# EAGLE library part SENSOR_CON_4PIN (library pie)
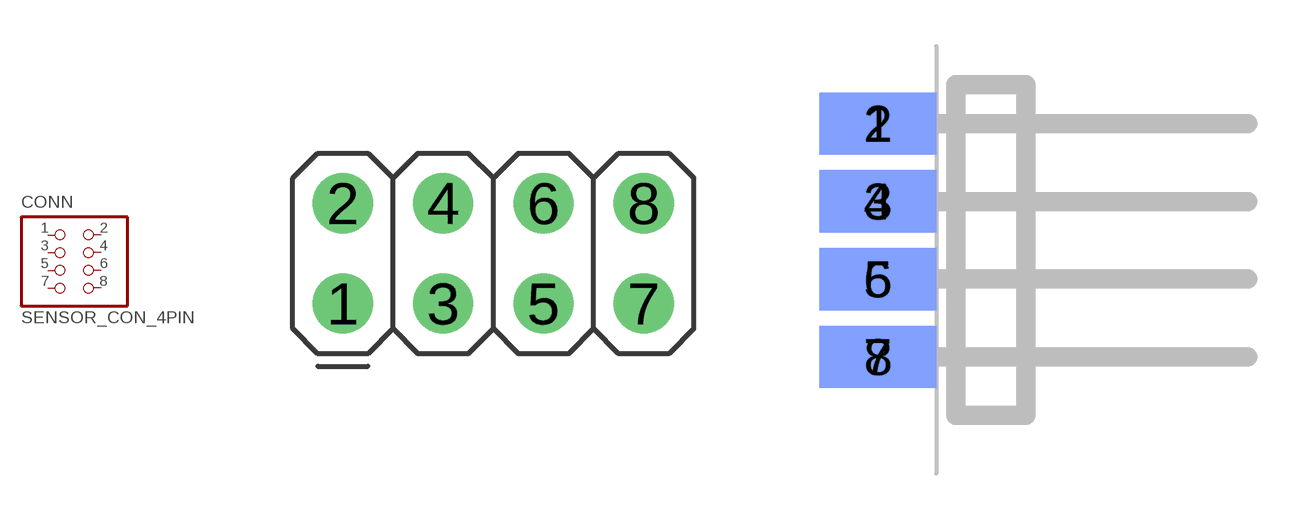
[diagram p18: symbol with the pads of 2X4; footprints 2X4, 2X4-EDGE]

Designator prefix CONN

## SENSOR_CON_4PINPTH (PIE-INT-REF-NUM: BULK-STOCK)  [2X4]
1  1  pas
2  2  pas
3  3  pas
4  4  pas
5  5  pas
6  6  pas
7  7  pas
8  8  pas

## SENSOR_CON_4PINSMD-EDGE (PIE-INT-REF-NUM: BULK-STOCK)  [2X4-EDGE]
Pads as for 2X4

## Footprint 2X4 (pad centres in mm)
2x4-pin 0.1-inch header Pololu page <https://www.pololu.com/product/966> Drawings <http://multimedia.3m.com/mws/media/548112O/3mtm-pin-strip-header-ts2181.pdf>
drill 1.016 pad 1.524: 1 -3.81,-1.27; 2 -3.81,1.27; 3 -1.27,-1.27; 4 -1.27,1.27; 5 1.27,-1.27; 6 1.27,1.27; 7 3.81,-1.27; 8 3.81,1.27

## Footprint 2X4-EDGE (pad centres in mm)
2x4-pin 0.1-inch header Pololu page <https://www.pololu.com/product/966> Drawings <http://multimedia.3m.com/mws/media/548112O/3mtm-pin-strip-header-ts2181.pdf>
smd 3.81 x 2.032: 1 -2.54,3.81; 3 -2.54,1.27; 5 -2.54,-1.27; 7 -2.54,-3.81
smd 3.81 x 2.032 bottom: 2 -2.54,3.81; 4 -2.54,1.27; 6 -2.54,-1.27; 8 -2.54,-3.81